# EAGLE library part MAN8940 (library 000_eigene_Bauteile)
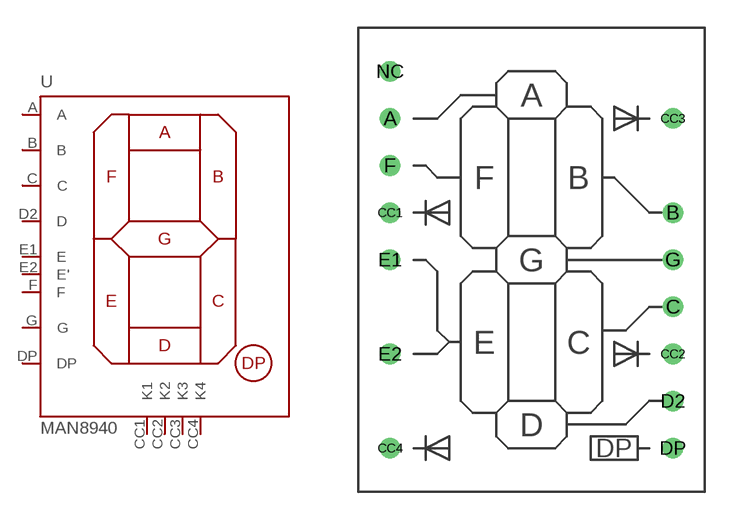
[diagram p5: symbol with the pads of MAN8940; footprint MAN8940]

Designator prefix -

## MAN8940  [MAN8940]
A  A
B  B
C  C
CC1  K1
CC2  K2
CC3  K3
CC4  K4
D2  D
DP  DP
E1  E
E2  E'
F  F
G  G

## Footprint MAN8940 (pad centres in mm)
drill 0.6: A -7.62,7.62; B 7.62,2.54; C 7.62,-2.54; CC1 -7.62,2.54; CC2 7.62,-5.08; CC3 7.62,7.62; CC4 -7.62,-10.16; D2 7.62,-7.62; DP 7.62,-10.16; E1 -7.62,0; E2 -7.62,-5.08; F -7.62,5.08; G 7.62,0; NC -7.62,10.16